# Altium schematic symbol library ThangTM_Sch.SchLib: 137 symbols (part 2 of 4)
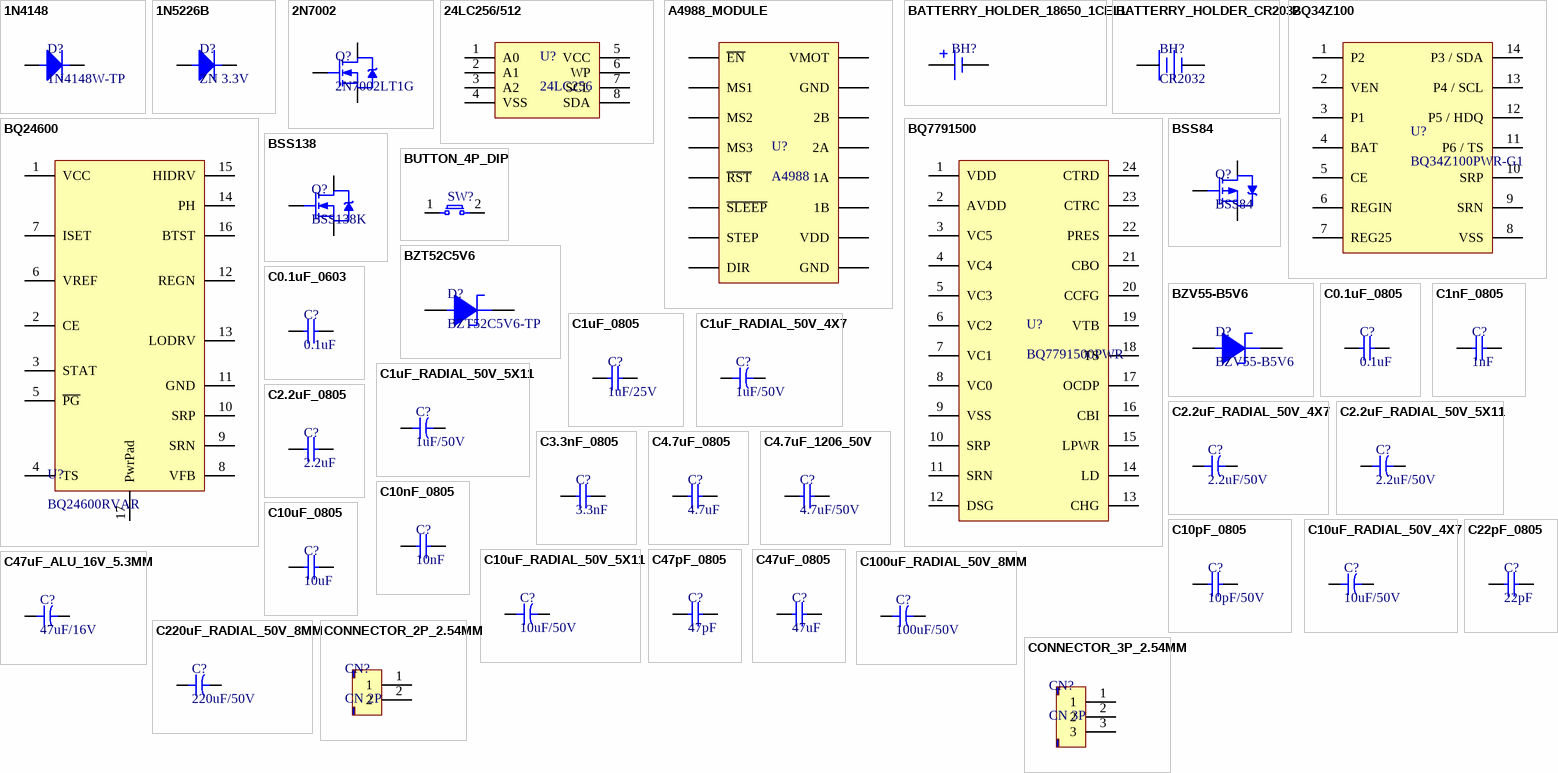
[diagram p4: symbols 1N4148 to CONNECTOR_3P_2.54MM]

## C47pF_0805
designator C?, comment 47pF
KEMET         C0805C470J5GACTU             SMD Multilayer Ceramic Capacitor, 0805 [2012 Metric], 47 pF, 50 V,  5%, C0G / NP0, C Series; Voltage Rating: 50V; Dissipation Factor: 0.1%; Temperature Coefficient: 30ppm/°C; Supplier 1: Digi-Key; Supplier Part Number 1: 399-1117-1-ND; Manufacturer: KEMET; Manufacturer Part Number: C0805C470J5GACTU; Stock 1: 177550; Pricing 1: 1 = 0.10000, 10 = 0.07100, 100 = 0.03160, 500 = 0.02260, 1000 = 0.01776 (USD); RoHS: Yes; Mount: Surface Mount; Case/Package: 0805; Case Code (Imperial): 0805; Case Code (Metric): 2012; Contact Material: Tin; Dielectric Material: Ceramic; Min Operating Temperature: -55°C; Max Operating Temperature: 125°C; Capacitance: 47pF; Tolerance: 5%; Voltage Rating (DC): 50V; Package Quantity: 1; Packaging: Tape and Reel; Dielectric: NP0; Termination: SMD/SMT; Voltage: 50V; Length: 2mm; Height: 0.78mm; Width: 1.2mm; Lead Pitch: 0.75mm; Thickness: 0.035inch; Depth: 1.25mm; Radiation Hardening: No; REACH SVHC: No SVHC; Lead Free: Lead Free; ComponentLink1URL: https://datasheet.ciiva.com/144/docfinderpartnumber-c0805c470j5gactu-144523.pdf?src-supplier=Digi-Key; ComponentLink1Description: https://datasheet.ciiva.com/144/docfinderpartnumber-c0805c470j5gactu-144523.pdf?src-supplier=Digi-Key; ComponentLink2URL: https://datasheet.ciiva.com/6177/1776097-6177451.pdf?src-supplier=Farnell; ComponentLink2Description: https://datasheet.ciiva.com/6177/1776097-6177451.pdf?src-supplier=Farnell; ComponentLink3URL: https://datasheet.ciiva.com/2988/kem-c1003-c0g-smd-2988662.pdf?src-supplier=Avnet; ComponentLink3Description: https://datasheet.ciiva.com/2988/kem-c1003-c0g-smd-2988662.pdf?src-supplier=Avnet; ComponentLink4URL: https://datasheet.ciiva.com/18193/getdatasheetpartid-385739-18193815.pdf?src-supplier=Verical; ComponentLink4Description: https://datasheet.ciiva.com/18193/getdatasheetpartid-385739-18193815.pdf?src-supplier=Verical; ComponentLink5URL: https://datasheet.ciiva.com/18193/getdatasheetpartid-90952-18193818.pdf?src-supplier=Verical; ComponentLink5Description: https://datasheet.ciiva.com/18193/getdatasheetpartid-90952-18193818.pdf?src-supplier=Verical; ComponentLink6URL: https://datasheet.ciiva.com/28668/1789732-28668810.pdf?src-supplier=Element14; ComponentLink6Description: https://datasheet.ciiva.com/28668/1789732-28668810.pdf?src-supplier=Element14; ComponentLink7URL: https://datasheet.ciiva.com/7842/1776097-7842333.pdf?src-supplier=Element14; ComponentLink7Description: https://datasheet.ciiva.com/7842/1776097-7842333.pdf?src-supplier=Element14; ComponentLink8URL: https://datasheet.ciiva.com/14589/70095383-14589405.pdf?src-supplier=Allied+Electronics; ComponentLink8Description: https://datasheet.ciiva.com/14589/70095383-14589405.pdf?src-supplier=Allied+Electronics; ComponentLink9URL: https://datasheet.ciiva.com/7842/1776097-7842334.pdf?src-supplier=Element14; ComponentLink9Description: https://datasheet.ciiva.com/7842/1776097-7842334.pdf?src-supplier=Element14
footprint C0805
pins: 1, 2

## C47uF_0805
designator C?, comment 47uF
CAP CER 47UF 4V X6S 0805; Manufacturer: Murata; Manufacturer Part Number: GRM21BC80G476ME15L; Tolerance: 20%; Supplier 1: Digi-Key; Supplier Part Number 1: 490-9954-1-ND; Stock 1: 224770; Pricing 1: 1 = 0.48000, 10 = 0.33900, 100 = 0.22360, 500 = 0.16560, 1000 = 0.14076 (USD); RoHS: Yes; Mount: Surface Mount; Case/Package: 0805; Weight: 0.000335oz; Case Code (Metric): 2012; Case Code (Imperial): 0805; Min Operating Temperature: -55°C; Max Operating Temperature: 105°C; Capacitance: 47uF; Dielectric: X6S; Voltage Rating (DC): 4V; Packaging: Tape and Reel; Voltage Rating: 4V; Termination: SMD/SMT; Package Quantity: 3000; Length: 0.079inch; Height: 1.25mm; Width: 0.049inch; Thickness: 0.057inch; Lead Free: Lead Free; ComponentLink1URL: http://www.mouser.com/ds/2/281/c02e-2905.pdf?src-supplier=Mouser; ComponentLink1Description: http://www.mouser.com/ds/2/281/c02e-2905.pdf?src-supplier=Mouser; ComponentLink2URL: http://search.murata.co.jp/Ceramy/image/img/A01X/G101/ENG/GRM21BC80G476ME15-01.pdf?src-supplier=Digi-Key; ComponentLink2Description: http://search.murata.co.jp/Ceramy/image/img/A01X/G101/ENG/GRM21BC80G476ME15-01.pdf?src-supplier=Digi-Key; ComponentLink3URL: http://search.murata.co.jp/Ceramy/image/img/A01X/partnumbering_e_01.pdf?src-supplier=Digi-Key; ComponentLink3Description: http://search.murata.co.jp/Ceramy/image/img/A01X/partnumbering_e_01.pdf?src-supplier=Digi-Key
footprint C0805
pins: 1, 2

## C47uF_ALU_16V_5.3MM
designator C?, comment 47uF/16V
CAP ALUM POLY 47UF 20% 16V SMD; Manufacturer: Nichicon; Manufacturer Part Number: PCG1C470MCL1GS; Dielectric Material: Aluminium; ESR (Equivalent Series Resistance): 40mR; Ripple Current: 1.5A; Life (Hours): 2000Hour; Leakage Current: 150uA; Dissipation Factor: 0.12%; Lead Diameter: 0.45mm; Supplier 1: Digi-Key; Supplier Part Number 1: 493-3095-1-ND; Stock 1: 1485; Pricing 1: 1 = 1.42000, 10 = 1.12100, 100 = 0.84060, 500 = 0.63516 (USD); RoHS: Yes; Mount: Surface Mount; Case/Package: Radial; Number of Pins: 2; Min Operating Temperature: -55°C; Max Operating Temperature: 105°C; Capacitance: 47uF; Tolerance: 20%; Voltage Rating: 16V; Packaging: Tape and Reel; Package Quantity: 1; Voltage Rating (DC): 16V; Termination: SMD/SMT; Voltage: 16V; Diameter: 5mm; Length: 6mm; Height: 6mm; Height - Seated (Max): 0.236inch; Radiation Hardening: No; Lead Free: Lead Free; ComponentLink1URL: https://datasheet.ciiva.com/102/e-cg-102226.pdf?src-supplier=Digi-Key; ComponentLink1Description: https://datasheet.ciiva.com/102/e-cg-102226.pdf?src-supplier=Digi-Key; ComponentLink2URL: https://datasheet.ciiva.com/102/e-cg-102227.pdf?src-supplier=Digi-Key; ComponentLink2Description: https://datasheet.ciiva.com/102/e-cg-102227.pdf?src-supplier=Digi-Key; ComponentLink3URL: https://datasheet.ciiva.com/102/e-cg-102228.pdf?src-supplier=Digi-Key; ComponentLink3Description: https://datasheet.ciiva.com/102/e-cg-102228.pdf?src-supplier=Digi-Key; ComponentLink4URL: https://datasheet.ciiva.com/17519/e-cg-17519919.pdf?src-supplier=Avnet+Europe; ComponentLink4Description: https://datasheet.ciiva.com/17519/e-cg-17519919.pdf?src-supplier=Avnet+Europe; Supplier 2: Digi-Key; Supplier Part Number 2: P15835CT-ND; Stock 2: 24801; Pricing 2: 1 = 0.24000, 10 = 0.16400, 100 = 0.09310, 500 = 0.06568, 1000 = 0.05748 (USD); Features: General Purpose; Lead Pitch: 2.5mm; ComponentLink5URL: https://datasheet.ciiva.com/11681/aba0000ce99-11681192.pdf?src-supplier=Avnet; ComponentLink5Description: https://datasheet.ciiva.com/11681/aba0000ce99-11681192.pdf?src-supplier=Avnet
footprint C_ALU_5.3MM
pins: 1, 2

## C100uF_RADIAL_50V_8MM
designator C?, comment 100uF/50V
Cap Aluminum Lytic 100uF 50V 20% (8 X 11.5mm) Radial 5mm 870mA 6000h 105C Ammo Pack; Manufacturer: Panasonic; Manufacturer Part Number: EEUFR1H101B; ESR (Equivalent Series Resistance): 61mR; Life (Hours): 6000Hour; Lead Diameter: 0.6mm; Supplier 1: Digi-Key; Stock 1: 22841; Pricing 1: 1=0.50000, 10=0.35600, 100=0.23410, 500=0.17342 (USD); RoHS: Yes; Mount: Through Hole,PCB; Case/Package: Radial; Contact Plating: Tin; Min Operating Temperature: -40°C; Max Operating Temperature: 105°C; Capacitance: 100uF; Tolerance: 20%; Voltage Rating (DC): 50V; Package Quantity: 1; Voltage Rating: 50V; Ripple Current: 870mA; Impedance: 61mR; Packaging: Tape and Reel; Termination: Radial; Features: General Purpose; Diameter: 8mm; Length: 11.5mm; Height: 11.5mm; Lead Pitch: 5mm; Height - Seated (Max): 0.512inch; Radiation Hardening: No; REACH SVHC: No SVHC; Lead Free: Lead Free; ComponentLink1URL: https://datasheet.ciiva.com/11679/aba0000ce132-11679259.pdf?src-supplier=Avnet; ComponentLink1Description: https://datasheet.ciiva.com/11679/aba0000ce132-11679259.pdf?src-supplier=Avnet; ComponentLink2URL: https://datasheet.ciiva.com/16223/aba0000ce132-16223451.pdf?src-supplier=Future+Electronics; ComponentLink2Description: https://datasheet.ciiva.com/16223/aba0000ce132-16223451.pdf?src-supplier=Future+Electronics; ComponentLink3URL: https://datasheet.ciiva.com/30210/9aba0000ce132-30210667.pdf?src-supplier=Onlinecomponents.com; ComponentLink3Description: https://datasheet.ciiva.com/30210/9aba0000ce132-30210667.pdf?src-supplier=Onlinecomponents.com; ComponentLink4URL: https://datasheet.ciiva.com/46376/1653413-46376125.pdf?src-supplier=Element14; ComponentLink4Description: https://datasheet.ciiva.com/46376/1653413-46376125.pdf?src-supplier=Element14; ComponentLink5URL: https://datasheet.ciiva.com/7794/1725490-7794462.pdf?src-supplier=Element14; ComponentLink5Description: https://datasheet.ciiva.com/7794/1725490-7794462.pdf?src-supplier=Element14; ComponentLink6URL: https://datasheet.ciiva.com/43469/1653413-43469550.pdf?src-supplier=Farnell; ComponentLink6Description: https://datasheet.ciiva.com/43469/1653413-43469550.pdf?src-supplier=Farnell; Supplier Part Number 1: P15369CT-ND
footprint CAP_RADIAL_8MM
pins: 1, 2

## C220uF_RADIAL_50V_8MM
designator C?, comment 220uF/50V
ALUMINUM ELECTROLYTIC CAPACITOR, 220UF, 35V, 20%, RADIAL; Product Range:FM Series; Capacitance:220 F; Capacitance Tolerance: 20%; Voltage Rating:35V; Diameter:8mm; Capacitor Terminals:Radial Leaded; Packaging:Each; ESR:- ;RoHS Compliant: Yes; Manufacturer: Panasonic; Manufacturer Part Number: EEUFM1V221L; Dielectric Material: Aluminium; Ripple Current: 1.24A; Impedance: 41mR; Life (Hours): 3000Hour; Dissipation Factor: 0.12%; Lead Diameter: 0.6mm; Lead Length: 17mm; Supplier 1: Digi-Key; Stock 1: 22801; Pricing 1: 1=0.45000, 10=0.32100, 100=0.21170, 500=0.15680, 1000=0.13328, 2500=0.12544, 5000=0.11760 (USD); RoHS: Yes; Mount: Through Hole,PCB; Case/Package: Radial; Number of Pins: 2; Min Operating Temperature: -40°C; Max Operating Temperature: 105°C; Capacitance: 220uF; Tolerance: 20%; Termination: Radial; Packaging: Bulk; Package Quantity: 200; Voltage Rating (DC): 35V; Voltage Rating: 35V; ESR (Equivalent Series Resistance): 41mR; Voltage: 35V; Diameter: 8mm; Length: 15mm; Height: 15mm; Lead Pitch: 3.5mm; Height - Seated (Max): 0.65inch; Radiation Hardening: No; Lead Free: Lead Free; REACH SVHC: Yes; ComponentLink1URL: https://datasheet.ciiva.com/11782/0900766b805f3abe-11782034.pdf?src-supplier=RSComponents; ComponentLink1Description: https://datasheet.ciiva.com/11782/0900766b805f3abe-11782034.pdf?src-supplier=RSComponents; ComponentLink2URL: https://datasheet.ciiva.com/27052/1362169-27052083.pdf?src-supplier=Jameco; ComponentLink2Description: https://datasheet.ciiva.com/27052/1362169-27052083.pdf?src-supplier=Jameco; ComponentLink3URL: https://datasheet.ciiva.com/16432/aba0000ce108-16432952.pdf?src-supplier=Future+Electronics; ComponentLink3Description: https://datasheet.ciiva.com/16432/aba0000ce108-16432952.pdf?src-supplier=Future+Electronics; ComponentLink4URL: https://datasheet.ciiva.com/24025/a-e-461514-24025544.pdf?src-supplier=Mouser; ComponentLink4Description: https://datasheet.ciiva.com/24025/a-e-461514-24025544.pdf?src-supplier=Mouser; ComponentLink5URL: https://datasheet.ciiva.com/2984/aba0000ce108-2984074.pdf?src-supplier=Avnet; ComponentLink5Description: https://datasheet.ciiva.com/2984/aba0000ce108-2984074.pdf?src-supplier=Avnet; ComponentLink6URL: https://datasheet.ciiva.com/43454/1678946-43454650.pdf?src-supplier=Farnell; ComponentLink6Description: https://datasheet.ciiva.com/43454/1678946-43454650.pdf?src-supplier=Farnell; ComponentLink7URL: https://datasheet.ciiva.com/14594/70068540-14594187.pdf?src-supplier=Allied+Electronics; ComponentLink7Description: https://datasheet.ciiva.com/14594/70068540-14594187.pdf?src-supplier=Allied+Electronics; ComponentLink8URL: https://datasheet.ciiva.com/30085/aba0000ce108-30085595.pdf?src-supplier=Onlinecomponents.com; ComponentLink8Description: https://datasheet.ciiva.com/30085/aba0000ce108-30085595.pdf?src-supplier=Onlinecomponents.com; ComponentLink9URL: https://datasheet.ciiva.com/46396/1678946-46396779.pdf?src-supplier=Element14; ComponentLink9Description: https://datasheet.ciiva.com/46396/1678946-46396779.pdf?src-supplier=Element14; ComponentLink10URL: https://datasheet.ciiva.com/14586/70068540-14586860.pdf?src-supplier=Allied+Electronics; ComponentLink10Description: https://datasheet.ciiva.com/14586/70068540-14586860.pdf?src-supplier=Allied+Electronics; Supplier Part Number 1: P12412-ND
footprint CAP_RADIAL_8MM
pins: 1, 2

## CONNECTOR_2P_2.54MM
designator CN?, comment CN 2P
footprint CONNECTOR_2P_2.54MM
pins: 1, 2

## CONNECTOR_3P_2.54MM
designator CN?, comment CN 3P
footprint CONNECTOR_3P_2.54MM
pins: 1, 2, 3

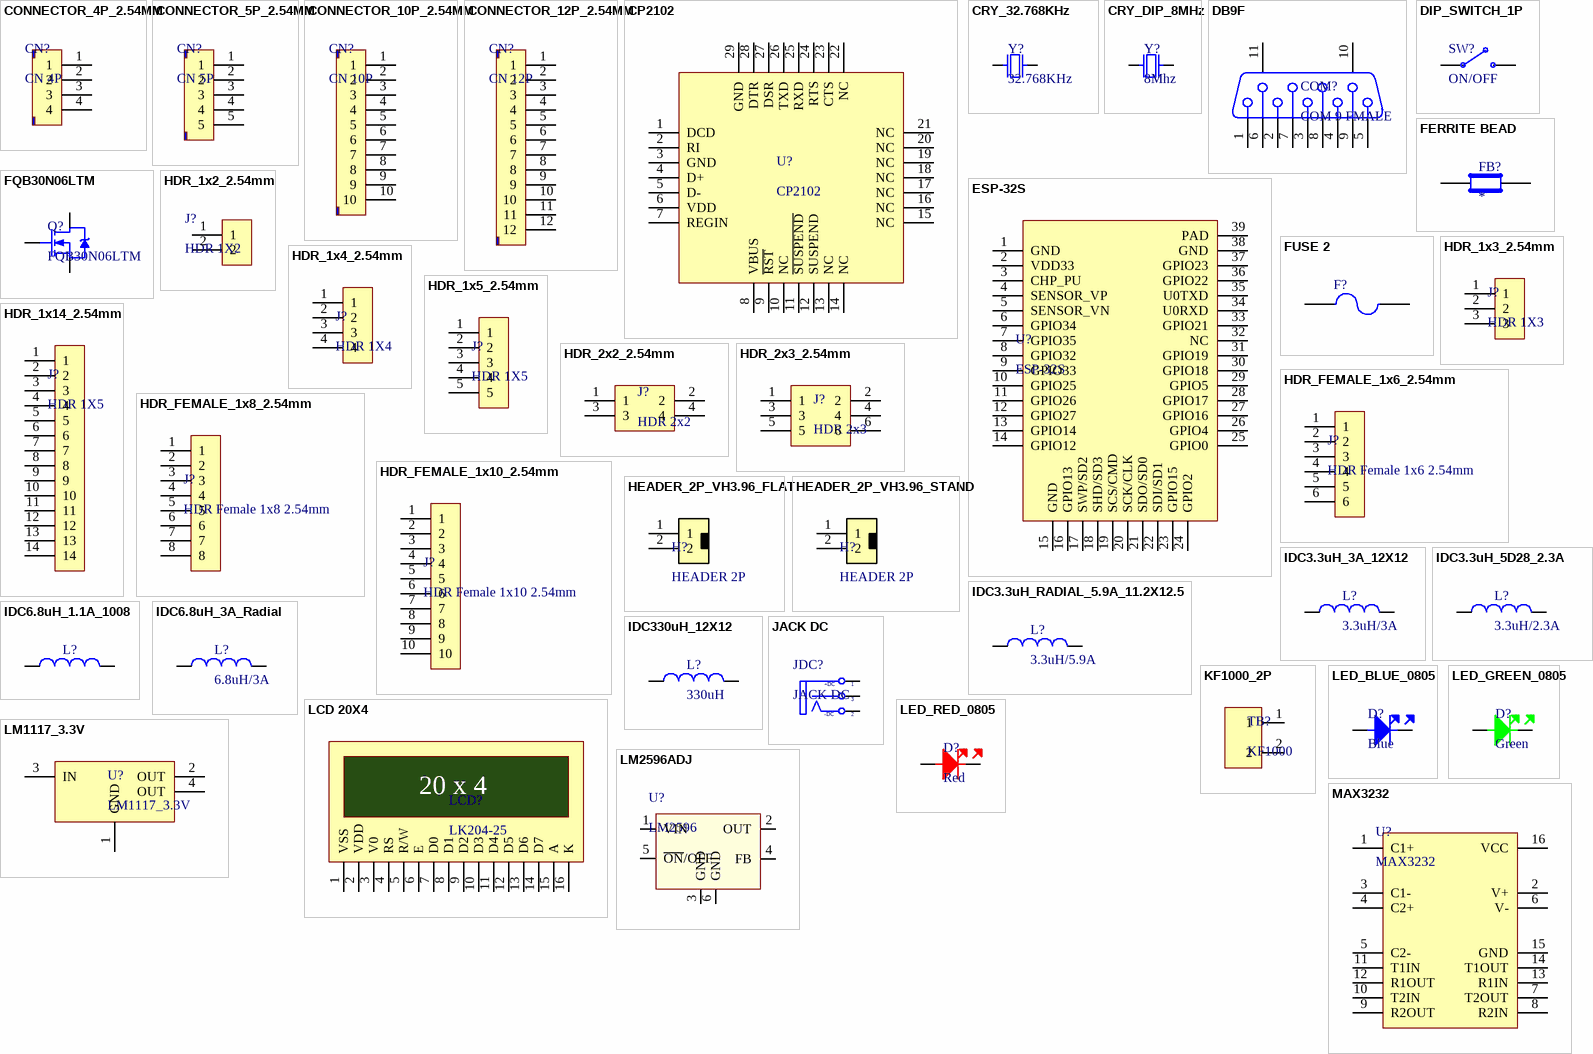
[diagram p1: symbols CONNECTOR_4P_2.54MM to MAX3232]

## CONNECTOR_4P_2.54MM
designator CN?, comment CN 4P
footprint CONNECTOR_4P_2.54MM
pins: 1, 2, 3, 4

## CONNECTOR_5P_2.54MM
designator CN?, comment CN 5P
footprint CONNECTOR_5P_2.54MM
pins: 1, 2, 3, 4, 5

## CONNECTOR_10P_2.54MM
designator CN?, comment CN 10P
footprint CONNECTOR_10P_2.54MM
pins: 1, 2, 3, 4, 5, 6, 7, 8, 9, 10

## CONNECTOR_12P_2.54MM
designator CN?, comment CN 12P
footprint CONNECTOR_10P_2.54MM
pins: 1, 2, 3, 4, 5, 6, 7, 8, 9, 10, 11, 12

## CP2102
designator U?
pins: 1 DCD, 2 RI, 3 GND, 4 D+, 5 D-, 6 VDD, 7 REGIN, 8 VBUS, 9 ~{RST}, 10 NC, 11 ~{SUSPEND}, 12 SUSPEND, 13 NC, 14 NC, 15 NC, 16 NC, 17 NC, 18 NC, 19 NC, 20 NC, 21 NC, 22 NC, 23 CTS, 24 RTS, 25 RXD, 26 TXD, 27 DSR, 28 DTR, 29 GND

## CRY_32.768KHz
designator Y?, comment 32.768KHz
footprint CRY_32.768
pins: 1, 2

## CRY_DIP_8MHz
designator Y?, comment 8Mhz
CRYSTAL 8.0000MHZ 18PF T/H; Manufacturer: Abracon; Manufacturer Part Number: ABL2-8.000MHZ-D3W-I-T; Supplier 1: Digi-Key; Stock 1: 3606; Pricing 1: 1 = 0.36000, 10 = 0.30300, 50 = 0.27220, 100 = 0.24200, 500 = 0.22990 (USD); RoHS: No; Supplier Part Number 1: 535-14340-1-ND
footprint CRYSTAL_DIP
pins: 1, 2

## DB9F
designator COM?, comment COM 9 FMALE
footprint DB9
pins: 1, 2, 3, 4, 5, 6, 7, 8, 9, 10 MH1, 11 MH2

## DIP_SWITCH_1P
designator SW?, comment ON/OFF
SWITCH SLIDE DIP SPST 25MA 24V; Manufacturer: Wurth Electronics; Manufacturer Part Number: 418117270901; Body Material: Nylon,Polyamide; Mechanical Life: 5000Cycles; Number of Positions: 1; Electrical Life: 2000Cycles; Actuator Type: Slide (Standard); Pitch: 0.1inch; Washable: No; Supplier 1: Digi-Key; Supplier Part Number 1: 732-3831-5-ND; Stock 1: 3963; Pricing 1: 1 = 0.88000, 10 = 0.86100, 50 = 0.78600, 148 = 0.71101, 296 = 0.63601 (USD); RoHS: Yes; Mount: Through Hole; Contact Plating: Gold; Min Operating Temperature: -40°C; Max Operating Temperature: 85°C; Package Quantity: 148; Packaging: Rail/Tube; Current Rating: 25mA; Voltage Rating (DC): 24V; Termination: PC Pin; Throw Configuration: SPST; Length: 0.139inch; Lead Free: Lead Free; ComponentLink1URL: https://datasheet.ciiva.com/2864/4181172709xx-2864172.pdf?src-supplier=Digi-Key; ComponentLink1Description: https://datasheet.ciiva.com/2864/4181172709xx-2864172.pdf?src-supplier=Digi-Key
footprint DIP_SWITCH_1P
pins: 1, 2

## ESP-32S
designator U?
pins: 1 GND, 2 VDD33, 3 CHP_PU, 4 SENSOR_VP, 5 SENSOR_VN, 6 GPIO34, 7 GPIO35, 8 GPIO32, 9 GPIO33, 10 GPIO25, 11 GPIO26, 12 GPIO27, 13 GPIO14, 14 GPIO12, 15 GND, 16 GPIO13, 17 SWP/SD2, 18 SHD/SD3, 19 SCS/CMD, 20 SCK/CLK, 21 SDO/SD0, 22 SDI/SD1, 23 GPIO15, 24 GPIO2, 25 GPIO0, 26 GPIO4, 27 GPIO16, 28 GPIO17, 29 GPIO5, 30 GPIO18, 31 GPIO19, 32 NC, 33 GPIO21, 34 U0RXD, 35 U0TXD, 36 GPIO22, 37 GPIO23, 38 GND, 39 PAD

## FERRITE BEAD
designator FB?
pins: 1, 2

## FQB30N06LTM
designator Q?
Trans MOSFET N-CH 60V 32A 3-Pin(2+Tab) D2PAK T/R; Manufacturer: ON Semiconductor / Fairchild; Rds On Max: 35mR; Input Capacitance: 1.04nF; Max Power Dissipation: 3.75W; Gate to Source Voltage (Vgs): 20V; Rise Time: 210ns; Number of Elements: 1; Fall Time: 110ns; Turn-Off Delay Time: 60ns; Turn-On Delay Time: 15ns; Threshold Voltage: 2.5V; Element Configuration: Single; Supplier 1: Digi-Key; Supplier Part Number 1: FQB30N06LTMCT-ND; Manufacturer Part Number: FQB30N06LTM; Stock 1: 8417; Pricing 1: 1 = 1.38000, 10 = 1.23200, 100 = 0.87710 (USD); RoHS: Yes; Mount: Surface Mount; Case/Package: D2PAK; Number of Pins: 3; Weight: 1.31247g; Min Operating Temperature: -55°C; Max Operating Temperature: 175°C; Packaging: Tape and Reel; Drain to Source Voltage (Vdss): 60V; Continuous Drain Current (ID): 32A; Drain to Source Breakdown Voltage: 60V; Power Dissipation: 3.75W; Drain to Source Resistance: 35mR; Voltage Rating (DC): 60V; Current Rating: 32A; Package Quantity: 1; On-State Resistance: 35mR; Length: 10.67mm; Height: 4.83mm; Width: 9.65mm; Radiation Hardening: No; REACH SVHC: No SVHC; Lead Free: Lead Free; ComponentLink1URL: https://datasheet.ciiva.com/17283/fqb30n06l-17283216.pdf?src-supplier=Future+Electronics; ComponentLink1Description: https://datasheet.ciiva.com/17283/fqb30n06l-17283216.pdf?src-supplier=Future+Electronics; ComponentLink2URL: https://datasheet.ciiva.com/4440/fqb30n06l-109873-4440753.pdf?src-supplier=Mouser; ComponentLink2Description: https://datasheet.ciiva.com/4440/fqb30n06l-109873-4440753.pdf?src-supplier=Mouser; ComponentLink3URL: https://datasheet.ciiva.com/6379/fqb30n06l-6379045.pdf?src-supplier=Digi-Key; ComponentLink3Description: https://datasheet.ciiva.com/6379/fqb30n06l-6379045.pdf?src-supplier=Digi-Key
footprint TO-263AB
pins: 1 G, 2 D, 3 S

## FUSE 2
designator F?
Fuse; Published: 8-Jun-2000; LatestRevisionDate: 17-Jul-2002; LatestRevisionNote: Re-released for DXP Platform.; PackageReference: PIN-W2/E2.8; Publisher: Altium Limited; PackageDescription: Thru-Hole; 2 Leads
footprint PIN-W2/E2.8 (Thru-Hole; 2 Leads)
simulation model FUSE (Spice Subcircuit)
pins: 1, 2

## HDR_1x2_2.54mm
designator J?, comment HDR 1X2
CONN HEADER VERT 2POS 2.54MM; Manufacturer: Amphenol FCI; Manufacturer Part Number: 68001-402HLF; Number of Contacts: 2; Current Rating: 3A; Voltage Rating: 1.5kV; Insulation Resistance: 5GR; Gender: Male; Connector Type: Male Pin; Contact Post Length: 3.05mm; Supplier 1: Digi-Key; Supplier Part Number 1: 609-3507-ND; Stock 1: 13583; Pricing 1: 1 = 0.12000, 10 = 0.11600, 100 = 0.07160, 500 = 0.05928, 1000 = 0.05187, 5000 = 0.04446, 10000 = 0.04323 (USD); RoHS: Yes; Mount: Through Hole; Contact Plating: Tin; Color: Black; Contact Material: Bronze; Housing Color: Black; Housing Material: Thermoplastic; Min Operating Temperature: -65°C; Max Operating Temperature: 125°C; Number of Rows: 1; Termination: Solder; Package Quantity: 100; Packaging: Bulk; Contact Gender: Male; Number of Positions: 2; Max Voltage Rating (AC): 1.5kV; Orientation: Straight; Length: 5.08mm; Pitch: 2.54mm; Contact Mating Length: 0.23inch; Depth: 2.41mm; Radiation Hardening: No; REACH SVHC: No SVHC; Lead Free: Lead Free; Flammability Rating: UL94 V-0; ComponentLink1URL: https://datasheet.ciiva.com/724/68000-724389.pdf?src-supplier=Digi-Key; ComponentLink1Description: https://datasheet.ciiva.com/724/68000-724389.pdf?src-supplier=Digi-Key; ComponentLink2URL: https://datasheet.ciiva.com/16726/68000-16726185.pdf?src-supplier=Avnet+Europe; ComponentLink2Description: https://datasheet.ciiva.com/16726/68000-16726185.pdf?src-supplier=Avnet+Europe; ComponentLink3URL: https://datasheet.ciiva.com/10149/68000-10149338.pdf?src-supplier=Avnet; ComponentLink3Description: https://datasheet.ciiva.com/10149/68000-10149338.pdf?src-supplier=Avnet; ComponentLink4URL: https://datasheet.ciiva.com/46385/1748756-46385306.pdf?src-supplier=Element14; ComponentLink4Description: https://datasheet.ciiva.com/46385/1748756-46385306.pdf?src-supplier=Element14
footprint HDR_1X2_2.54MM
pins: 1, 2

## HDR_1x3_2.54mm
designator J?, comment HDR 1X3
CONN HEADER VERT 3POS 2.54MM; Manufacturer: Amphenol FCI; Manufacturer Part Number: 68000-103HLF; Number of Contacts: 3; Current Rating: 3A; Voltage Rating: 1.5kV; Insulation Resistance: 5GR; Gender: Male; Connector Type: Male Pin; Contact Post Length: 2.41mm; Supplier 1: Digi-Key; Supplier Part Number 1: 609-3461-ND; Stock 1: 27662; Pricing 1: 1 = 0.29000, 10 = 0.27900, 100 = 0.19500, 500 = 0.16716, 1000 = 0.13930, 5000 = 0.11940, 10000 = 0.11144 (USD); RoHS: Yes; Mount: Through Hole; Contact Plating: Gold,GXT; Contact Material: Bronze; Color: Black; Housing Color: Black; Housing Material: Thermoplastic; Min Operating Temperature: -65°C; Max Operating Temperature: 125°C; Number of Rows: 1; Termination: Solder; Contact Gender: Male; Package Quantity: 100; Packaging: Bulk; Number of Positions: 3; Max Voltage Rating (AC): 1.5kV; Orientation: Straight; Length: 7.62mm; Pitch: 2.54mm; Contact Mating Length: 0.23inch; Depth: 2.41mm; Radiation Hardening: No; REACH SVHC: No SVHC; Flammability Rating: UL94 V-0; ComponentLink1URL: https://datasheet.ciiva.com/5157/68000-274283-5157301.pdf?src-supplier=Mouser; ComponentLink1Description: https://datasheet.ciiva.com/5157/68000-274283-5157301.pdf?src-supplier=Mouser; ComponentLink2URL: https://datasheet.ciiva.com/46392/1914865-46392021.pdf?src-supplier=Element14; ComponentLink2Description: https://datasheet.ciiva.com/46392/1914865-46392021.pdf?src-supplier=Element14; ComponentLink3URL: https://datasheet.ciiva.com/10149/68000-10149754.pdf?src-supplier=Avnet; ComponentLink3Description: https://datasheet.ciiva.com/10149/68000-10149754.pdf?src-supplier=Avnet
footprint HDR_1X3_2.54MM
pins: 1, 2, 3

## HDR_1x4_2.54mm
designator J?, comment HDR 1X4
CONN HEADER VERT 4POS 2.54MM; Manufacturer: Amphenol FCI; Manufacturer Part Number: 68001-104HLF; Number of Contacts: 4; Current Rating: 3A; Voltage Rating: 1.5kV; Insulation Resistance: 5GR; Gender: Male; Connector Type: Male Pin; Contact Post Length: 3.05mm; Supplier 1: Digi-Key; Supplier Part Number 1: 609-3271-ND; Stock 1: 3075; Pricing 1: 1 = 0.33000, 10 = 0.31000, 100 = 0.21680, 500 = 0.18586, 1000 = 0.15488, 5000 = 0.13275, 10000 = 0.12390 (USD); RoHS: Yes; Mount: Through Hole; Contact Plating: Gold,GXT; Contact Material: Bronze; Color: Black; Housing Material: Thermoplastic; Housing Color: Black; Min Operating Temperature: -65°C; Max Operating Temperature: 125°C; Number of Rows: 1; Termination: Solder; Packaging: Bulk; Package Quantity: 100; Contact Gender: Male; Number of Positions: 4; Max Voltage Rating (AC): 1.5kV; Orientation: Straight; Length: 10.16mm; Pitch: 2.54mm; Contact Mating Length: 0.23inch; Depth: 2.41mm; Radiation Hardening: No; REACH SVHC: No SVHC; ComponentLink1URL: https://datasheet.ciiva.com/9474/68000-9474294.pdf?src-supplier=Avnet; ComponentLink1Description: https://datasheet.ciiva.com/9474/68000-9474294.pdf?src-supplier=Avnet; ComponentLink2URL: https://datasheet.ciiva.com/728/68000-728903.pdf?src-supplier=Digi-Key; ComponentLink2Description: https://datasheet.ciiva.com/728/68000-728903.pdf?src-supplier=Digi-Key; ComponentLink3URL: https://datasheet.ciiva.com/46395/1914865-46395912.pdf?src-supplier=Element14; ComponentLink3Description: https://datasheet.ciiva.com/46395/1914865-46395912.pdf?src-supplier=Element14
footprint HDR_1X4_2.54MM
pins: 1, 2, 3, 4

## HDR_1x5_2.54mm
designator J?, comment HDR 1X5
CONN HEADER VERT 5POS 2.54MM
pins: 1, 2, 3, 4, 5

## HDR_1x14_2.54mm
designator J?, comment HDR 1X5
CONN HEADER VERT 14POS 2.54MM
pins: 1, 2, 3, 4, 5, 6, 7, 8, 9, 10, 11, 12, 13, 14

## HDR_2x2_2.54mm
designator J?, comment HDR 2x2
CONN HEADER VERT 4POS 2.54MM; Manufacturer: Amphenol FCI; Manufacturer Part Number: 67997-404HLF; Number of Contacts: 4; Current Rating: 3A; Voltage Rating: 1.5kV; Insulation Resistance: 5GR; Gender: Male; Connector Type: Male Pin; Row Spacing: 0.1inch; Contact Post Length: 3.05mm; Supplier 1: Digi-Key; Stock 1: 16054; Pricing 1: 1 = 0.20000, 10 = 0.18700, 100 = 0.12970, 500 = 0.10978, 1000 = 0.08982, 5000 = 0.07984, 10000 = 0.07236 (USD); RoHS: Yes; Mount: Through Hole; Contact Plating: Tin; Contact Material: Bronze; Color: Black; Housing Color: Black; Housing Material: Thermoplastic; Min Operating Temperature: -65°C; Max Operating Temperature: 125°C; Number of Rows: 2; Termination: Solder; Package Quantity: 100; Packaging: Bulk; Contact Gender: Male; Number of Positions: 4; Max Voltage Rating (AC): 1.5kV; Orientation: Straight; Length: 5.08mm; Pitch: 2.54mm; Contact Mating Length: 0.23inch; Depth: 4.83mm; Radiation Hardening: No; REACH SVHC: No SVHC; Flammability Rating: UL94 V-0; ComponentLink1URL: https://datasheet.ciiva.com/5157/67996-222359-5157404.pdf?src-supplier=Mouser; ComponentLink1Description: https://datasheet.ciiva.com/5157/67996-222359-5157404.pdf?src-supplier=Mouser; ComponentLink2URL: https://datasheet.ciiva.com/728/67996-728875.pdf?src-supplier=Digi-Key; ComponentLink2Description: https://datasheet.ciiva.com/728/67996-728875.pdf?src-supplier=Digi-Key; ComponentLink3URL: https://datasheet.ciiva.com/16726/67996-16726299.pdf?src-supplier=Avnet+Europe; ComponentLink3Description: https://datasheet.ciiva.com/16726/67996-16726299.pdf?src-supplier=Avnet+Europe; ComponentLink4URL: https://datasheet.ciiva.com/3205/67996-3205614.pdf?src-supplier=Avnet; ComponentLink4Description: https://datasheet.ciiva.com/3205/67996-3205614.pdf?src-supplier=Avnet; Supplier Part Number 1: 609-3242-ND
footprint HDR_2X2_2.54MM
pins: 1, 2, 3, 4

## HDR_2x3_2.54mm
designator J?, comment HDR 2x3
CONN HEADER VERT 6POS 2.54MM; Manufacturer: Amphenol FCI; Manufacturer Part Number: 67997-106HLF; Number of Contacts: 6; Current Rating: 3A; Voltage Rating: 1.5kV; Insulation Resistance: 5GR; Gender: Male; Connector Type: Male Pin; Row Spacing: 0.1inch; Contact Post Length: 3.05mm; Supplier 1: Digi-Key; Supplier Part Number 1: 609-3393-ND; Stock 1: 104; Pricing 1: 1 = 1.78000, 10 = 1.61400, 100 = 1.38370, 500 = 1.15308, 1000 = 0.98835, 5000 = 0.87634, 10000 = 0.85657 (USD); RoHS: Yes; Mount: Through Hole; Contact Plating: Gold,GXT; Contact Material: Bronze; Color: Black; Housing Color: Black; Housing Material: Thermoplastic; Min Operating Temperature: -65°C; Max Operating Temperature: 125°C; Number of Rows: 2; Termination: Through Hole; Packaging: Bulk; Package Quantity: 100; Contact Gender: Male; Number of Positions: 6; Max Voltage Rating (AC): 1.5kV; Orientation: Straight; Length: 7.62mm; Pitch: 2.54mm; Contact Mating Length: 0.23inch; Depth: 4.83mm; Radiation Hardening: No; REACH SVHC: No SVHC; Lead Free: Lead Free; Flammability Rating: UL94 V-0; ComponentLink1URL: https://datasheet.ciiva.com/5153/67996-222463-5153820.pdf?src-supplier=Mouser; ComponentLink1Description: https://datasheet.ciiva.com/5153/67996-222463-5153820.pdf?src-supplier=Mouser; ComponentLink2URL: https://datasheet.ciiva.com/10149/67996-10149221.pdf?src-supplier=Avnet; ComponentLink2Description: https://datasheet.ciiva.com/10149/67996-10149221.pdf?src-supplier=Avnet; ComponentLink3URL: https://datasheet.ciiva.com/46393/1876884-46393067.pdf?src-supplier=Element14; ComponentLink3Description: https://datasheet.ciiva.com/46393/1876884-46393067.pdf?src-supplier=Element14; ComponentLink4URL: https://datasheet.ciiva.com/722/67996-722044.pdf?src-supplier=Digi-Key; ComponentLink4Description: https://datasheet.ciiva.com/722/67996-722044.pdf?src-supplier=Digi-Key; ComponentLink5URL: https://datasheet.ciiva.com/16726/67996-16726286.pdf?src-supplier=Avnet+Europe; ComponentLink5Description: https://datasheet.ciiva.com/16726/67996-16726286.pdf?src-supplier=Avnet+Europe
footprint HDR_2X3_2.54MM
pins: 1, 2, 3, 4, 5, 6

## HDR_FEMALE_1x6_2.54mm
designator J?, comment HDR Female 1x6 2.54mm
06-WAY SIL VERT SOCKET L/FREE; Manufacturer: Harwin; Manufacturer Part Number: M20-7820646; Number of Contacts: 6; Max Current Rating: 3A; Contact Resistance: 20mR; Connector Type: Receptacle,Socket; Supplier 1: Digi-Key; Supplier Part Number 1: 952-1809-ND; Stock 1: 1909; Pricing 1: 1 = 0.96000, 10 = 0.84200, 100 = 0.72600, 500 = 0.59400, 1000 = 0.52800, 5000 = 0.46200, 10000 = 0.43890 (USD); RoHS: Yes; Mount: Through Hole; Case/Package: SIL; Color: Black; Contact Plating: Tin; Contact Material: Bronze; Housing Color: Black; Housing Material: Nylon; Min Operating Temperature: -40°C; Max Operating Temperature: 105°C; Number of Rows: 1; Termination: Solder; Packaging: Rail/Tube; Contact Gender: Female; Package Quantity: 38; Number of Positions: 6; Orientation: Straight; Gender: Female; Length: 15.64mm; Pitch: 2.54mm; Depth: 2.5mm; Radiation Hardening: No; ComponentLink1URL: http://components.arrow.com/part/dataview/0323_00725884?src-supplier=Arrow+Europe; ComponentLink1Description: http://components.arrow.com/part/dataview/0323_00725884?src-supplier=Arrow+Europe; ComponentLink2URL: http://www.harwin.com/include/downloads/pdfs/2010PAGE120.PDF?src-supplier=Avnet; ComponentLink2Description: http://www.harwin.com/include/downloads/pdfs/2010PAGE120.PDF?src-supplier=Avnet; ComponentLink3URL: https://cdn.harwin.com/pdfs/M20-782.pdf?src-supplier=Digi-Key; ComponentLink3Description: https://cdn.harwin.com/pdfs/M20-782.pdf?src-supplier=Digi-Key; ComponentLink4URL: https://cdn.harwin.com/pdfs/Harwin_PC_Connectors_M20.pdf?src-supplier=Avnet+Europe; ComponentLink4Description: https://cdn.harwin.com/pdfs/Harwin_PC_Connectors_M20.pdf?src-supplier=Avnet+Europe; ComponentLink5URL: https://cdn.harwin.com/pdfs/Harwin_PC_Connectors_M20.pdf?src-supplier=Mouser; ComponentLink5Description: https://cdn.harwin.com/pdfs/Harwin_PC_Connectors_M20.pdf?src-supplier=Mouser; ComponentLink6URL: https://cdn.harwin.com/pdfs/Harwin_PC_Connectors_M20.pdf?src-supplier=RSComponents; ComponentLink6Description: https://cdn.harwin.com/pdfs/Harwin_PC_Connectors_M20.pdf?src-supplier=RSComponents; ComponentLink7URL: https://cdn.harwin.com/pdfs/Harwin_PC_Connectors_M20.pdf?src-supplier=TTI; ComponentLink7Description: https://cdn.harwin.com/pdfs/Harwin_PC_Connectors_M20.pdf?src-supplier=TTI
footprint HDR_FEMALE_1x6_2.54MM
pins: 1, 2, 3, 4, 5, 6

## HDR_FEMALE_1x8_2.54mm
designator J?, comment HDR Female 1x8 2.54mm
08-WAY SIL VERT SOCKET L/FREE; Manufacturer: Harwin; Manufacturer Part Number: M20-7820842; Number of Contacts: 8; Max Current Rating: 3A; Contact Resistance: 20mR; Connector Type: Receptacle,Socket; Supplier 1: Digi-Key; Supplier Part Number 1: 952-1823-ND; Stock 1: 3454; Pricing 1: 1 = 1.10000, 10 = 0.97200, 100 = 0.83820, 500 = 0.68580, 1000 = 0.60960, 5000 = 0.53340, 10000 = 0.50673 (USD); RoHS: Yes; Mount: Through Hole; Case/Package: SIL; Weight: 0.025397oz; Contact Plating: Tin,Gold; Color: Black; Contact Material: Bronze; Housing Color: Black; Housing Material: Polyamide; Min Operating Temperature: -40°C; Max Operating Temperature: 105°C; Number of Rows: 1; Termination: Solder; Contact Gender: Female; Package Quantity: 29; Packaging: Rail/Tube; Number of Positions: 8; Orientation: Straight; Gender: Female; Length: 20.72mm; Pitch: 2.54mm; Depth: 2.5mm; Radiation Hardening: No; ComponentLink1URL: https://datasheet.ciiva.com/16732/m20-782-16732663.pdf?src-supplier=Avnet+Europe; ComponentLink1Description: https://datasheet.ciiva.com/16732/m20-782-16732663.pdf?src-supplier=Avnet+Europe; ComponentLink2URL: https://datasheet.ciiva.com/9480/m20-782-9480074.pdf?src-supplier=Avnet; ComponentLink2Description: https://datasheet.ciiva.com/9480/m20-782-9480074.pdf?src-supplier=Avnet
footprint HDR_FEMALE_1x8_2.54MM
pins: 1, 2, 3, 4, 5, 6, 7, 8

## HDR_FEMALE_1x10_2.54mm
designator J?, comment HDR Female 1x10 2.54mm
10-WAY SIL VERT SOCKET L/FREE; Manufacturer: Harwin; Manufacturer Part Number: M20-7821046; Number of Contacts: 10; Max Current Rating: 3A; Contact Resistance: 20mR; Mating Cycles: 50; Connector Type: Receptacle,Socket; Gender: Receptacle; Insulation Resistance: 1MR; Hole Diameter: 0.8mm; Supplier 1: Digi-Key; Supplier Part Number 1: 952-1847-ND; Stock 1: 226; Pricing 1: 1 = 1.28000, 10 = 1.12200, 100 = 0.96800, 500 = 0.79200, 1000 = 0.70400, 5000 = 0.61600, 10000 = 0.58520 (USD); RoHS: Yes; Mount: Through Hole; Case/Package: SIL; Color: Black; Contact Plating: Tin; Contact Material: Bronze; Housing Color: Black; Housing Material: Polyamide; Min Operating Temperature: -40°C; Max Operating Temperature: 105°C; Number of Rows: 1; Termination: Solder; Packaging: Rail/Tube; Contact Gender: Female; Package Quantity: 23; Current Rating: 3A; Number of Positions: 10; Orientation: Straight; Length: 25.8mm; Pitch: 2.54mm; Lead Pitch: 2.54mm; Depth: 2.5mm; Radiation Hardening: No; REACH SVHC: No SVHC; ComponentLink1URL: https://datasheet.ciiva.com/11753/0900766b80dc1d2b-11753869.pdf?src-supplier=RSComponents; ComponentLink1Description: https://datasheet.ciiva.com/11753/0900766b80dc1d2b-11753869.pdf?src-supplier=RSComponents; ComponentLink2URL: https://datasheet.ciiva.com/26899/getdatasheetpartid-559226-26899379.pdf?src-supplier=Verical; ComponentLink2Description: https://datasheet.ciiva.com/26899/getdatasheetpartid-559226-26899379.pdf?src-supplier=Verical; ComponentLink3URL: https://datasheet.ciiva.com/16732/m20-782-16732152.pdf?src-supplier=Avnet+Europe; ComponentLink3Description: https://datasheet.ciiva.com/16732/m20-782-16732152.pdf?src-supplier=Avnet+Europe; ComponentLink4URL: https://datasheet.ciiva.com/6785/m20-782-6785605.pdf?src-supplier=Digi-Key; ComponentLink4Description: https://datasheet.ciiva.com/6785/m20-782-6785605.pdf?src-supplier=Digi-Key; ComponentLink5URL: https://datasheet.ciiva.com/10151/m20-782-10151366.pdf?src-supplier=Avnet; ComponentLink5Description: https://datasheet.ciiva.com/10151/m20-782-10151366.pdf?src-supplier=Avnet
footprint HDR_FEMALE_1x10_2.54MM
pins: 1, 2, 3, 4, 5, 6, 7, 8, 9, 10

## HEADER_2P_VH3.96_FLAT
designator H?, comment HEADER 2P
CONN HEADER R/A 2POS 3.96MM; Manufacturer: JST; Manufacturer Part Number: B2PS-VH(LF)(SN); Contact Resistance: 20mR; Max Current Rating: 10A; Voltage Rating (AC): 250V; Number of Positions: 2; Insulation Resistance: 1GR; Gender: Male; Connector Type: Male Pin; Supplier 1: Digi-Key; Supplier Part Number 1: 455-1648-ND; Stock 1: 3809; Pricing 1: 1 = 0.23000, 10 = 0.21600, 100 = 0.14970, 500 = 0.12670, 1000 = 0.10367, 5000 = 0.09215, 10000 = 0.08351 (USD); RoHS: Yes; Mount: Through Hole; Contact Material: Brass; Contact Plating: Tin,Copper; Color: Natural; Housing Color: White; Housing Material: Polyamide; Min Operating Temperature: -25°C; Max Operating Temperature: 85°C; Number of Rows: 1; Fastening Type: Ramp; Packaging: Bulk; Current Rating: 10A; Voltage Rating (DC): 250V; Voltage Rating: 250V; Termination: Solder; Max Voltage Rating (AC): 250V; Number of Contacts: 2; Working Voltage: 250V; Max Voltage Rating (DC): 250V; Orientation: Right Angle; Length: 7.86mm; Lead Pitch: 3.96mm; Pitch: 3.96mm; Contact Mating Length: 0.303inch; Depth: 14.9mm; REACH SVHC: No SVHC; Lead Free: Lead Free; ComponentLink1URL: https://datasheet.ciiva.com/6747/80546-6747400.pdf?src-supplier=Newark; ComponentLink1Description: https://datasheet.ciiva.com/6747/80546-6747400.pdf?src-supplier=Newark; ComponentLink2URL: https://datasheet.ciiva.com/11752/0900766b8082f576-11752095.pdf?src-supplier=RSComponents; ComponentLink2Description: https://datasheet.ciiva.com/11752/0900766b8082f576-11752095.pdf?src-supplier=RSComponents; ComponentLink3URL: https://datasheet.ciiva.com/26894/getdatasheetpartid-690326-26894442.pdf?src-supplier=Verical; ComponentLink3Description: https://datasheet.ciiva.com/26894/getdatasheetpartid-690326-26894442.pdf?src-supplier=Verical; ComponentLink4URL: https://datasheet.ciiva.com/16417/b2ps-vhlfsn-16417644.pdf?src-supplier=Future+Electronics; ComponentLink4Description: https://datasheet.ciiva.com/16417/b2ps-vhlfsn-16417644.pdf?src-supplier=Future+Electronics; ComponentLink5URL: https://datasheet.ciiva.com/712/evh-712477.pdf?src-supplier=Digi-Key; ComponentLink5Description: https://datasheet.ciiva.com/712/evh-712477.pdf?src-supplier=Digi-Key; ComponentLink6URL: https://datasheet.ciiva.com/8052/80546-8052031.pdf?src-supplier=Element14; ComponentLink6Description: https://datasheet.ciiva.com/8052/80546-8052031.pdf?src-supplier=Element14
footprint HEADER_2P_VH3.96_FLAT
pins: 1, 2

## HEADER_2P_VH3.96_STAND
designator H?, comment HEADER 2P
CONN HEADER VERT 2POS 3.96MM; Manufacturer: JST; Manufacturer Part Number: B2P-VH(LF)(SN); Current Rating: 10A; Number of Positions: 2; Connector Type: Male Pin; Contact Resistance: 20mR; Voltage Rating (AC): 250V; Insulation Resistance: 1GR; Gender: Male; Supplier 1: Digi-Key; Supplier Part Number 1: 455-1639-ND; Stock 1: 79249; Pricing 1: 1 = 0.190000, 10 = 0.179000, 100 = 0.124400, 500 = 0.105280, 1000 = 0.086150, 5000 = 0.076570, 10000 = 0.069400 (USD); RoHS: Yes; Mount: Through Hole; Number of Pins: 2; Contact Material: Brass,Tin; Contact Plating: Tin,Copper; Color: Natural; Housing Color: White; Housing Material: Polyamide; Min Operating Temperature: -25°C; Max Operating Temperature: 85°C; Number of Rows: 1; Fastening Type: Ramp; Packaging: Bulk; Termination: Solder; Max Current Rating: 10A; Voltage Rating (DC): 250V; Voltage Rating: 250V; Max Voltage Rating (AC): 250V; Max Voltage Rating (DC): 250V; Number of Contacts: 2; Working Voltage: 250V; Orientation: Straight; Length: 7.86mm; Height: 8.5mm; Pitch: 3.96mm; Width: 14.6mm; Lead Pitch: 3.96mm; Contact Mating Length: 0.303inch; Depth: 8.5mm; Lead Free: Lead Free; REACH SVHC: No SVHC; ComponentLink1URL: https://datasheet.ciiva.com/11752/0900766b80826546-11752094.pdf?src-supplier=RSComponents; ComponentLink1Description: https://datasheet.ciiva.com/11752/0900766b80826546-11752094.pdf?src-supplier=RSComponents; ComponentLink2URL: https://datasheet.ciiva.com/20207/523651-20207206.pdf?src-supplier=Rapid+Electronics; ComponentLink2Description: https://datasheet.ciiva.com/20207/523651-20207206.pdf?src-supplier=Rapid+Electronics; ComponentLink3URL: https://datasheet.ciiva.com/712/evh-712456.pdf?src-supplier=Digi-Key; ComponentLink3Description: https://datasheet.ciiva.com/712/evh-712456.pdf?src-supplier=Digi-Key; ComponentLink4URL: https://datasheet.ciiva.com/8052/80543-8052029.pdf?src-supplier=Element14; ComponentLink4Description: https://datasheet.ciiva.com/8052/80543-8052029.pdf?src-supplier=Element14
footprint HEADER_2P_VH3.96_STAND
pins: 1, 2

## IDC3.3uH_3A_12X12
designator L?, comment 3.3uH/3A
footprint IDC_12X12
pins: 1, 2

## IDC3.3uH_5D28_2.3A
designator L?, comment 3.3uH/2.3A
FIXED IND 3.3UH 2.3A 20.3 MOHM; Manufacturer: Sumida; Manufacturer Part Number: CDRH5D28RNP-3R3NC; Core Material: Ferrite; Tolerance: 30%; Shielding: Shielded; DC Resistance (DCR): 20.3mR; Test Frequency: 100kHz; Supplier 1: Digi-Key; Supplier Part Number 1: 308-2071-1-ND; Stock 1: 12691; Pricing 1: 1 = 0.97000, 10 = 0.84500, 100 = 0.60380, 500 = 0.50716, 1000 = 0.41055 (USD); RoHS: Yes; Mount: Surface Mount; Case/Package: Nonstandard; Weight: 0.01411oz; Min Operating Temperature: -40°C; Max Operating Temperature: 100°C; Packaging: Tape and Reel; Current Rating: 2.3A; Inductance: 3.3uH; Max DC Current: 2.3A; Termination: SMD/SMT; Length: 0.236inch; Height: 3mm; Width: 0.232inch; Height - Seated (Max): 0.118inch; Depth: 6.2mm; Radiation Hardening: No; Lead Free: Lead Free; ComponentLink1URL: http://www.mouser.com/ds/2/390/CDRH5D28R-465847.pdf?src-supplier=Mouser; ComponentLink1Description: http://www.mouser.com/ds/2/390/CDRH5D28R-465847.pdf?src-supplier=Mouser; ComponentLink2URL: http://products.sumida.com/products/pdf/CDRH5D28R.pdf?src-supplier=Digi-Key; ComponentLink2Description: http://products.sumida.com/products/pdf/CDRH5D28R.pdf?src-supplier=Digi-Key; ComponentLink3URL: http://www.sumida.com/products/pdf/CDRH5D28R.pdf?src-supplier=Avnet; ComponentLink3Description: http://www.sumida.com/products/pdf/CDRH5D28R.pdf?src-supplier=Avnet
footprint IDC_5D28
pins: 1, 2

## IDC3.3uH_RADIAL_5.9A_11.2X12.5
designator L?, comment 3.3uH/5.9A
Fixed Inductors 3.3uH 5.9A; Manufacturer: TDK; Manufacturer Part Number: TSL1112RA-3R3M5R9-PF; Tolerance: 20%; Saturation Current: 8.8A; Shielding: Unshielded; Self Resonant Frequency: 36MHz; DC Resistance (DCR): 10mR; Test Frequency: 1kHz; Q Factor: 10; Lead/Base Style: Radial; Supplier 1: Digi-Key; Supplier Part Number 1: 445-3763-3-ND; Stock 1: 0; RoHS: Yes; Mount: Through Hole; Case/Package: Radial; Min Operating Temperature: -20°C; Max Operating Temperature: 85°C; Package Quantity: 500; Current Rating: 5.9A; Packaging: Tape and Reel; Inductance: 3.3uH; Max DC Current: 5.9A; Termination: Radial; DC Current: 5.9A; Military Standard: Not; Diameter: 11.5mm; Length: 12.2mm; Height: 12.5mm; Lead Pitch: 5mm; Height - Seated (Max): 0.492inch; Radiation Hardening: No; ComponentLink1URL: https://datasheet.ciiva.com/11797/0900766b80816539-11797767.pdf?src-supplier=RSComponents; ComponentLink1Description: https://datasheet.ciiva.com/11797/0900766b80816539-11797767.pdf?src-supplier=RSComponents
footprint IDC_RADIAL_11.2X12.5
pins: 1, 2

## IDC6.8uH_1.1A_1008
designator L?, comment 6.8uH/1.1A  (value not drawn)
Ind Metal Alloy Shielded 6.8uH 20% 1MHz Powdered Iron 0.76A 1008 T/R; Manufacturer: Murata; Manufacturer Part Number: 1269AS-H-6R8M=P2; Core Material: Ferrite; Current Rating: 1.1A; DC Resistance (DCR): 516mR; Max DC Current: 760mA; Capacitance: 4.7uF; Voltage Rating (DC): 6.3V; Dielectric: X5R; Supplier 1: Digi-Key; Supplier Part Number 1: 490-10578-1-ND; Stock 1: 331; Pricing 1: 1 = 0.42000, 10 = 0.37700, 100 = 0.25930, 500 = 0.22160, 1000 = 0.16974 (USD); RoHS: Yes; Mount: Surface Mount; Case/Package: 1008; Case Code (Metric): 2520; Case Code (Imperial): 1008; Min Operating Temperature: -40°C; Max Operating Temperature: 85°C; Packaging: Tape and Reel; Composition: Wirewound,Metal Alloy; Inductance: 6.8uH; Shielding: Shielded; Test Frequency: 1MHz; Tolerance: 20%; Length: 0.098inch; Width: 0.079inch; Height - Seated (Max): 0.039inch; Depth: 2mm; ComponentLink1URL: http://www.toko.co.jp/products/pdf/inductors/dfe252010c.pdf?src-supplier=Digi-Key; ComponentLink1Description: http://www.toko.co.jp/products/pdf/inductors/dfe252010c.pdf?src-supplier=Digi-Key; ComponentLink2URL: http://www.toko.co.jp/products/pdf/inductors/dfe252010c.pdf?src-supplier=Avnet; ComponentLink2Description: http://www.toko.co.jp/products/pdf/inductors/dfe252010c.pdf?src-supplier=Avnet; Supplier 2: Digi-Key; Supplier Part Number 2: 311-3422-1-ND; Stock 2: 6855; Pricing 2: 1 = 0.17000, 10 = 0.12400, 100 = 0.05850, 500 = 0.04100, 1000 = 0.03394 (USD); Number of Pins: 2; Weight: 0.000194oz; Voltage Rating: 6.3V; Termination: SMD/SMT; Thickness: 0.057inch; Lead Free: Lead Free; Halogen Free: Halogen Free; ComponentLink3URL: http://www.mouser.com/ds/2/447/UPY-GPHC_X5R_4V-to-50V_25-1131599.pdf?src-supplier=Mouser; ComponentLink3Description: http://www.mouser.com/ds/2/447/UPY-GPHC_X5R_4V-to-50V_25-1131599.pdf?src-supplier=Mouser; ComponentLink4URL: http://components.arrow.com/part/dataview/0323_04166591?src-supplier=Arrow+Europe; ComponentLink4Description: http://components.arrow.com/part/dataview/0323_04166591?src-supplier=Arrow+Europe; ComponentLink5URL: http://www.yageo.com/documents/recent/UPY-GPHC_X5R_4V-to-50V_25.pdf?src-supplier=Digi-Key; ComponentLink5Description: http://www.yageo.com/documents/recent/UPY-GPHC_X5R_4V-to-50V_25.pdf?src-supplier=Digi-Key; ComponentLink6URL: http://www.yageo.com/documents/recent/UPY-GPHC_X5R_4V-to-50V_23.pdf?src-supplier=Digi-Key; ComponentLink6Description: http://www.yageo.com/documents/recent/UPY-GPHC_X5R_4V-to-50V_23.pdf?src-supplier=Digi-Key
footprint IDC_1008
pins: 1, 2

## IDC6.8uH_3A_Radial
designator L?, comment 6.8uH/3A
FIXED IND 6.8UH 3A 39 MOHM TH; Manufacturer: Bourns; Manufacturer Part Number: RLB0914-6R8ML; Core Material: Ferrite; Tolerance: 20%; Shielding: Unshielded; Self Resonant Frequency: 30MHz; DC Resistance (DCR): 39mR; Test Frequency: 7.96MHz; Q Factor: 20; Lead/Base Style: Radial; Lead Diameter: 0.65mm; Supplier 1: Digi-Key; Supplier Part Number 1: RLB0914-6R8ML-ND; Stock 1: 2383; Pricing 1: 1 = 0.40000, 10 = 0.35000, 100 = 0.25000, 500 = 0.21000, 1000 = 0.17000, 2500 = 0.16000 (USD); RoHS: Yes; Mount: Through Hole,Radial; Case/Package: Radial; Number of Pins: 2; Contact Plating: Copper,Tin; Min Operating Temperature: -40°C; Max Operating Temperature: 105°C; Package Quantity: 200; Current Rating: 3A; Packaging: Bulk; Inductance Tolerance: 20%; Composition: Wirewound; Inductance: 6.8uH; Max DC Current: 3A; Termination: Radial; RMS Current (Irms): 3A; DC Current: 3A; Military Standard: Not; Diameter: 9.2mm; Length: 12mm; Height: 13mm; Lead Pitch: 5mm; Height - Seated (Max): 0.512inch; Radiation Hardening: No; REACH SVHC: No SVHC; ComponentLink1URL: https://datasheet.ciiva.com/46413/1647944-46413893.pdf?src-supplier=Element14; ComponentLink1Description: https://datasheet.ciiva.com/46413/1647944-46413893.pdf?src-supplier=Element14; ComponentLink2URL: https://datasheet.ciiva.com/1060/rlb-1060113.pdf?src-supplier=Digi-Key; ComponentLink2Description: https://datasheet.ciiva.com/1060/rlb-1060113.pdf?src-supplier=Digi-Key; ComponentLink3URL: https://datasheet.ciiva.com/8111/rlb-8111093.pdf?src-supplier=Avnet; ComponentLink3Description: https://datasheet.ciiva.com/8111/rlb-8111093.pdf?src-supplier=Avnet
footprint IDC_RADIAL
pins: 1, 2

## IDC330uH_12X12
designator L?, comment 330uH
Inductor Power Shielded Wirewound 330uH 10% 1KHz 22Q-Factor Ferrite 1.15A 580mOhm DCR Automotive T/R; Manufacturer: Bourns; Manufacturer Part Number: SRR1260A-331K; Self Resonant Frequency: 3.2MHz; Saturation Current: 1.1A; DC Resistance (DCR): 580mR; Supplier 1: Digi-Key; Stock 1: 2434; Pricing 1: 1=1.37000, 10=1.27100, 100=0.91890 (USD); RoHS: Yes; Mount: Surface Mount; Case/Package: Nonstandard; Core Material: Ferrite; Min Operating Temperature: -40°C; Max Operating Temperature: 125°C; Inductance Tolerance: 10%; Packaging: Cut Tape; Tolerance: 10%; Shielding: Shielded; Package Quantity: 600; Current Rating: 1.15A; Composition: Wirewound; Inductance: 330uH; Test Frequency: 1kHz; RMS Current (Irms): 1.15A; Max DC Current: 1.15A; Military Standard: Not; Length: 0.492inch; Height: 6mm; Width: 0.492inch; Height - Seated (Max): 0.256inch; Depth: 12.8mm; Ratings: AEC-Q200; REACH SVHC: No SVHC; ComponentLink1URL: https://datasheet.ciiva.com/41859/srr1260a-41859725.pdf?src-supplier=Digi-Key; ComponentLink1Description: https://datasheet.ciiva.com/41859/srr1260a-41859725.pdf?src-supplier=Digi-Key; Supplier Part Number 1: SRR1260A-331KCT-ND
footprint IDC_12X12
pins: 1, 2

## JACK DC
designator JDC?
CONN PWR JACK 2X5.5MM SOLDER; Manufacturer: CUI; Manufacturer Part Number: PJ-002A; Gender: Male; Shielding: Unshielded; Current Rating: 2.5A; Number of Conductors: 2; Voltage Rating: 24V; Insulation Resistance: 50MR; Supplier 1: Digi-Key; Supplier Part Number 1: CP-002A-ND; Stock 1: 60152; Pricing 1: 1 = 0.60000, 10 = 0.55800, 25 = 0.50240, 50 = 0.44640, 100 = 0.42780, 250 = 0.39060, 500 = 0.37200, 1000 = 0.30690, 2500 = 0.27900 (USD); RoHS: Yes; Mount: Through Hole; Color: Black; Contact Material: Copper Alloy,Copper; Contact Plating: Tin,Nickel; Housing Material: Thermoplastic; Housing Color: Black; Min Operating Temperature: -25°C; Max Operating Temperature: 85°C; Connector Type: Jack; Termination: Through Hole; Packaging: Bulk; Package Quantity: 500; Contact Gender: Male; Orientation: Horizontal; Diameter: 2.1mm; Lead Free: Lead Free; Flammability Rating: UL94 V-0; ComponentLink1URL: http://www.mouser.com/ds/2/670/pj-002a-515880.pdf?src-supplier=Mouser; ComponentLink1Description: http://www.mouser.com/ds/2/670/pj-002a-515880.pdf?src-supplier=Mouser; ComponentLink2URL: http://www.cui.com/Product/Resource/FuturePDF/PJ-002A.pdf?src-supplier=Future+Electronics; ComponentLink2Description: http://www.cui.com/Product/Resource/FuturePDF/PJ-002A.pdf?src-supplier=Future+Electronics; ComponentLink3URL: https://www.cui.com/product/resource/digikeypdf/pj-002a.pdf?src-supplier=Digi-Key; ComponentLink3Description: https://www.cui.com/product/resource/digikeypdf/pj-002a.pdf?src-supplier=Digi-Key
footprint JACK_DC
pins: 1 T "Tip", 2 TN "Tip Normal (Break Contact)", 3 S (power) "Sleeve (Ground)"
text: +DC; -DC

## KF1000_2P
designator TB?, comment KF1000
footprint KF1000_2P
pins: 1, 2

## LCD 20X4
designator LCD?, comment LK204-25
LCD ALPHA/NUM DISPL 20X4 Y/G BK; Manufacturer: Matrix Orbital; Backlight Type: LED; Interface: I2C,RS-232; Number of Characters: 80; Background Color: Green; Operating Supply Voltage: 5V; Supplier 1: Digi-Key; Supplier Part Number 1: 635-1022-ND; Manufacturer Part Number: LK204-25; Stock 1: 53; Pricing 1: 1 = 69.95000, 25 = 68.02040, 50 = 66.14000, 100 = 57.72000 (USD); RoHS: Yes; Mount: Screw; Min Operating Temperature: 0°C; Max Operating Temperature: 50°C; Package Quantity: 1; Packaging: Bulk; Length: 98mm; Height: 27.5mm; Width: 60mm; Lead Free: Lead Free; ComponentLink1URL: https://datasheet.ciiva.com/30513/157323-30513923.pdf?src-supplier=Jameco; ComponentLink1Description: https://datasheet.ciiva.com/30513/157323-30513923.pdf?src-supplier=Jameco; ComponentLink2URL: https://datasheet.ciiva.com/2102/lvk204-2528rev1-329-2102311.pdf?src-supplier=Digi-Key; ComponentLink2Description: https://datasheet.ciiva.com/2102/lvk204-2528rev1-329-2102311.pdf?src-supplier=Digi-Key
footprint LCD_16PINS
pins: 1 VSS, 2 VDD, 3 V0, 4 RS, 5 R/W, 6 E, 7 D0, 8 D1, 9 D2, 10 D3, 11 D4, 12 D5, 13 D6, 14 D7, 15 A, 16 K
text: 20 x 4

## LED_BLUE_0805
designator D?, comment Blue
LED BLUE DIFFUSED 0805 SMD; Manufacturer: Osram Opto; Manufacturer Part Number: LHR974-LP-1; Forward Voltage: 2.6V; Lens Style: Diffused,Colorless; Luminous Intensity: 15mcd; Viewing Angle: 160°; Forward Current: 30mA; Dominant Wavelength: 645nm; Number of Elements: 1; Test Current: 20mA; Reverse Voltage: 5V; Supplier 1: Digi-Key; Supplier Part Number 1: 475-1415-1-ND; Stock 1: 73137; Pricing 1: 1 = 0.27000, 10 = 0.20100, 100 = 0.09510, 500 = 0.06340, 1000 = 0.04966 (USD); RoHS: Yes; Mount: Surface Mount; Number of Pins: 2; Min Operating Temperature: -30°C; Max Operating Temperature: 85°C; Packaging: Tape and Reel; Length: 2.1mm; Depth: 1.35mm; Radiation Hardening: No
footprint LED_BLUE_0805
pins: 1 Anode, 2 Cathode